# Altium schematic symbol library WR-TBL_Rising Cage Clamp.SchLib: 433 symbols (part 5 of 8)
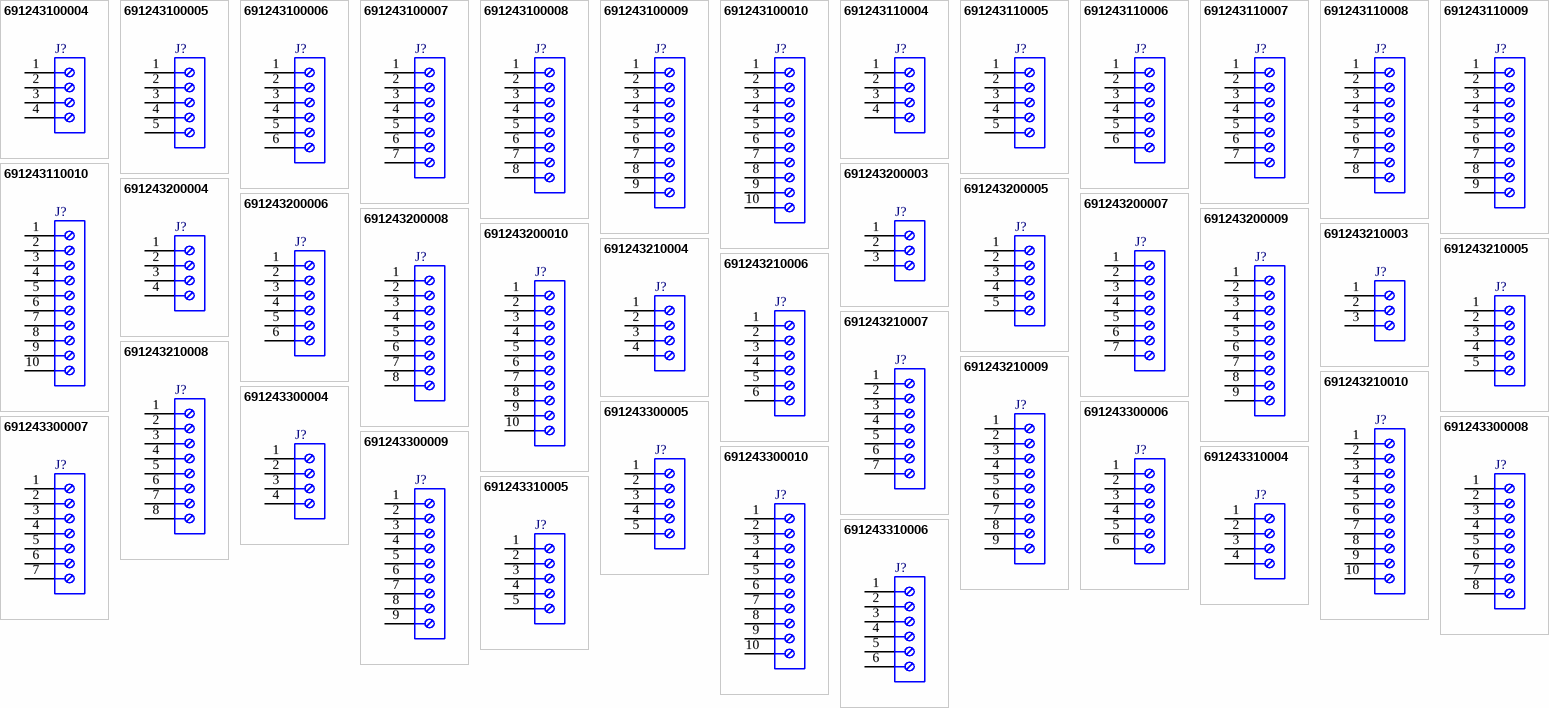
[diagram p14: symbols 691243100004 to 691243310006]

## 691243100009
designator J?  (value not drawn)
WR-TBL Series 2431 Vertical Entry Modular, THT, pitch 3.5mm, 09p; Manufacturer: Wurth Elektronik; Modularity: No; Rated Current: 10A; Wire Section: 30 to 16 (AWG) 0.05 to 1.31 (mm^2); Working Voltage: 300V (AC); Manufacturer Part Number: 691243100009; Product Series: WR-TBL; ComponentLink1Description: Website Link; ComponentLink1URL: https://www.we-online.com; ComponentLink2Description: Datasheet Link; ComponentLink2URL: https://www.we-online.com/components/products/datasheet/691243100009; Mount: Through Hole; Operating Temperature Min: -30degC; Operating Temperature Max: 120degC; Packaging: Box; Application: Rising Cage Clamp; Number of Pins: 9; Number of Rows: 1; Orientation: Vertical; Lead Pitch: 3.5mm
footprint 691243100009
pins: 1, 2, 3, 4, 5, 6, 7, 8, 9

## 691243100010
designator J?  (value not drawn)
WR-TBL Series 2431 Vertical Entry Modular, THT, pitch 3.5mm, 10p; Manufacturer: Wurth Elektronik; Modularity: No; Rated Current: 10A; Wire Section: 30 to 16 (AWG) 0.05 to 1.31 (mm^2); Working Voltage: 300V (AC); Manufacturer Part Number: 691243100010; Product Series: WR-TBL; ComponentLink1Description: Website Link; ComponentLink1URL: https://www.we-online.com; ComponentLink2Description: Datasheet Link; ComponentLink2URL: https://www.we-online.com/components/products/datasheet/691243100010; Mount: Through Hole; Operating Temperature Min: -30degC; Operating Temperature Max: 120degC; Packaging: Box; Application: Rising Cage Clamp; Number of Pins: 10; Number of Rows: 1; Orientation: Vertical; Lead Pitch: 3.5mm
footprint 691243100010
pins: 1, 2, 3, 4, 5, 6, 7, 8, 9, 10

## 691243110004
designator J?  (value not drawn)
WR-TBL Series 2431 Horizontal Cable Entry, THT, pitch 3.5mm, 04p; Manufacturer: Wurth Elektronik; Modularity: No; Rated Current: 10A; Wire Section: 30 to 16 (AWG) 0.05 to 1.31 (mm^2); Working Voltage: 300V (AC); Manufacturer Part Number: 691243110004; Product Series: WR-TBL; ComponentLink1Description: Website Link; ComponentLink1URL: https://www.we-online.com; ComponentLink2Description: Datasheet Link; ComponentLink2URL: https://www.we-online.com/components/products/datasheet/691243110004; Mount: Through Hole; Operating Temperature Min: -30degC; Operating Temperature Max: 120degC; Packaging: Box; Application: Rising Cage Clamp; Number of Pins: 4; Number of Rows: 1; Orientation: Horizontal; Lead Pitch: 3.5mm
footprint 691243110004
pins: 1, 2, 3, 4

## 691243110005
designator J?  (value not drawn)
WR-TBL Series 2431 Horizontal Cable Entry, THT, pitch 3.5mm, 05p; Manufacturer: Wurth Elektronik; Modularity: No; Rated Current: 10A; Wire Section: 30 to 16 (AWG) 0.05 to 1.31 (mm^2); Working Voltage: 300V (AC); Manufacturer Part Number: 691243110005; Product Series: WR-TBL; ComponentLink1Description: Website Link; ComponentLink1URL: https://www.we-online.com; ComponentLink2Description: Datasheet Link; ComponentLink2URL: https://www.we-online.com/components/products/datasheet/691243110005; Mount: Through Hole; Operating Temperature Min: -30degC; Operating Temperature Max: 120degC; Packaging: Box; Application: Rising Cage Clamp; Number of Pins: 5; Number of Rows: 1; Orientation: Horizontal; Lead Pitch: 3.5mm
footprint 691243110005
pins: 1, 2, 3, 4, 5

## 691243110006
designator J?  (value not drawn)
WR-TBL Series 2431 Horizontal Cable Entry, THT, pitch 3.5mm, 06p; Manufacturer: Wurth Elektronik; Modularity: No; Rated Current: 10A; Wire Section: 30 to 16 (AWG) 0.05 to 1.31 (mm^2); Working Voltage: 300V (AC); Manufacturer Part Number: 691243110006; Product Series: WR-TBL; ComponentLink1Description: Website Link; ComponentLink1URL: https://www.we-online.com; ComponentLink2Description: Datasheet Link; ComponentLink2URL: https://www.we-online.com/components/products/datasheet/691243110006; Mount: Through Hole; Operating Temperature Min: -30degC; Operating Temperature Max: 120degC; Packaging: Box; Application: Rising Cage Clamp; Number of Pins: 6; Number of Rows: 1; Orientation: Horizontal; Lead Pitch: 3.5mm
footprint 691243110006
pins: 1, 2, 3, 4, 5, 6

## 691243110007
designator J?  (value not drawn)
WR-TBL Series 2431 Horizontal Cable Entry, THT, pitch 3.5mm, 07p; Manufacturer: Wurth Elektronik; Modularity: No; Rated Current: 10A; Wire Section: 30 to 16 (AWG) 0.05 to 1.31 (mm^2); Working Voltage: 300V (AC); Manufacturer Part Number: 691243110007; Product Series: WR-TBL; ComponentLink1Description: Website Link; ComponentLink1URL: https://www.we-online.com; ComponentLink2Description: Datasheet Link; ComponentLink2URL: https://www.we-online.com/components/products/datasheet/691243110007; Mount: Through Hole; Operating Temperature Min: -30degC; Operating Temperature Max: 120degC; Packaging: Box; Application: Rising Cage Clamp; Number of Pins: 7; Number of Rows: 1; Orientation: Horizontal; Lead Pitch: 3.5mm
footprint 691243110007
pins: 1, 2, 3, 4, 5, 6, 7

## 691243110008
designator J?  (value not drawn)
WR-TBL Series 2431 Horizontal Cable Entry, THT, pitch 3.5mm, 08p; Manufacturer: Wurth Elektronik; Modularity: No; Rated Current: 10A; Wire Section: 30 to 16 (AWG) 0.05 to 1.31 (mm^2); Working Voltage: 300V (AC); Manufacturer Part Number: 691243110008; Product Series: WR-TBL; ComponentLink1Description: Website Link; ComponentLink1URL: https://www.we-online.com; ComponentLink2Description: Datasheet Link; ComponentLink2URL: https://www.we-online.com/components/products/datasheet/691243110008; Mount: Through Hole; Operating Temperature Min: -30degC; Operating Temperature Max: 120degC; Packaging: Box; Application: Rising Cage Clamp; Number of Pins: 8; Number of Rows: 1; Orientation: Horizontal; Lead Pitch: 3.5mm
footprint 691243110008
pins: 1, 2, 3, 4, 5, 6, 7, 8

## 691243110009
designator J?  (value not drawn)
WR-TBL Series 2431 Horizontal Cable Entry, THT, pitch 3.5mm, 09p; Manufacturer: Wurth Elektronik; Modularity: No; Rated Current: 10A; Wire Section: 30 to 16 (AWG) 0.05 to 1.31 (mm^2); Working Voltage: 300V (AC); Manufacturer Part Number: 691243110009; Product Series: WR-TBL; ComponentLink1Description: Website Link; ComponentLink1URL: https://www.we-online.com; ComponentLink2Description: Datasheet Link; ComponentLink2URL: https://www.we-online.com/components/products/datasheet/691243110009; Mount: Through Hole; Operating Temperature Min: -30degC; Operating Temperature Max: 120degC; Packaging: Box; Application: Rising Cage Clamp; Number of Pins: 9; Number of Rows: 1; Orientation: Horizontal; Lead Pitch: 3.5mm
footprint 691243110009
pins: 1, 2, 3, 4, 5, 6, 7, 8, 9

## 691243110010
designator J?  (value not drawn)
WR-TBL Series 2431 Horizontal Cable Entry, THT, pitch 3.5mm, 10p; Manufacturer: Wurth Elektronik; Modularity: No; Rated Current: 10A; Wire Section: 30 to 16 (AWG) 0.05 to 1.31 (mm^2); Working Voltage: 300V (AC); Manufacturer Part Number: 691243110010; Product Series: WR-TBL; ComponentLink1Description: Website Link; ComponentLink1URL: https://www.we-online.com; ComponentLink2Description: Datasheet Link; ComponentLink2URL: https://www.we-online.com/components/products/datasheet/691243110010; Mount: Through Hole; Operating Temperature Min: -30degC; Operating Temperature Max: 120degC; Packaging: Box; Application: Rising Cage Clamp; Number of Pins: 10; Number of Rows: 1; Orientation: Horizontal; Lead Pitch: 3.5mm
footprint 691243110010
pins: 1, 2, 3, 4, 5, 6, 7, 8, 9, 10

## 691243200003
designator J?  (value not drawn)
WR-TBL Series 2432 Vertical Entry Modular, THT, pitch 7mm, 03p; Manufacturer: Wurth Elektronik; Modularity: No; Rated Current: 10A; Wire Section: 16 to 30 (AWG) 1.31 to 0.0509 (mm^2); Working Voltage: 300V (AC); Manufacturer Part Number: 691243200003; Product Series: WR-TBL; ComponentLink1Description: Website Link; ComponentLink1URL: https://www.we-online.com; ComponentLink2Description: Datasheet Link; ComponentLink2URL: https://www.we-online.com/components/products/datasheet/691243200003; Mount: Through Hole; Operating Temperature Min: -30degC; Operating Temperature Max: 120degC; Packaging: Box; Application: Rising Cage Clamp; Number of Pins: 3; Number of Rows: 1; Orientation: Vertical; Lead Pitch: 7mm
footprint 691243200003
pins: 1, 2, 3

## 691243200004
designator J?  (value not drawn)
WR-TBL Series 2432 Vertical Entry Modular, THT, pitch 7mm, 04p; Manufacturer: Wurth Elektronik; Modularity: No; Rated Current: 10A; Wire Section: 16 to 30 (AWG) 1.31 to 0.0509 (mm^2); Working Voltage: 300V (AC); Manufacturer Part Number: 691243200004; Product Series: WR-TBL; ComponentLink1Description: Website Link; ComponentLink1URL: https://www.we-online.com; ComponentLink2Description: Datasheet Link; ComponentLink2URL: https://www.we-online.com/components/products/datasheet/691243200004; Mount: Through Hole; Operating Temperature Min: -30degC; Operating Temperature Max: 120degC; Packaging: Box; Application: Rising Cage Clamp; Number of Pins: 4; Number of Rows: 1; Orientation: Vertical; Lead Pitch: 7mm
footprint 691243200004
pins: 1, 2, 3, 4

## 691243200005
designator J?  (value not drawn)
WR-TBL Series 2432 Vertical Entry Modular, THT, pitch 7mm, 05p; Manufacturer: Wurth Elektronik; Modularity: No; Rated Current: 10A; Wire Section: 16 to 30 (AWG) 1.31 to 0.0509 (mm^2); Working Voltage: 300V (AC); Manufacturer Part Number: 691243200005; Product Series: WR-TBL; ComponentLink1Description: Website Link; ComponentLink1URL: https://www.we-online.com; ComponentLink2Description: Datasheet Link; ComponentLink2URL: https://www.we-online.com/components/products/datasheet/691243200005; Mount: Through Hole; Operating Temperature Min: -30degC; Operating Temperature Max: 120degC; Packaging: Box; Application: Rising Cage Clamp; Number of Pins: 5; Number of Rows: 1; Orientation: Vertical; Lead Pitch: 7mm
footprint 691243200005
pins: 1, 2, 3, 4, 5

## 691243200006
designator J?  (value not drawn)
WR-TBL Series 2432 Vertical Entry Modular, THT, pitch 7mm, 06p; Manufacturer: Wurth Elektronik; Modularity: No; Rated Current: 10A; Wire Section: 16 to 30 (AWG) 1.31 to 0.0509 (mm^2); Working Voltage: 300V (AC); Manufacturer Part Number: 691243200006; Product Series: WR-TBL; ComponentLink1Description: Website Link; ComponentLink1URL: https://www.we-online.com; ComponentLink2Description: Datasheet Link; ComponentLink2URL: https://www.we-online.com/components/products/datasheet/691243200006; Mount: Through Hole; Operating Temperature Min: -30degC; Operating Temperature Max: 120degC; Packaging: Box; Application: Rising Cage Clamp; Number of Pins: 6; Number of Rows: 1; Orientation: Vertical; Lead Pitch: 7mm
footprint 691243200006
pins: 1, 2, 3, 4, 5, 6

## 691243200007
designator J?  (value not drawn)
WR-TBL Series 2432 Vertical Entry Modular, THT, pitch 7mm, 07p; Manufacturer: Wurth Elektronik; Modularity: No; Rated Current: 10A; Wire Section: 16 to 30 (AWG) 1.31 to 0.0509 (mm^2); Working Voltage: 300V (AC); Manufacturer Part Number: 691243200007; Product Series: WR-TBL; ComponentLink1Description: Website Link; ComponentLink1URL: https://www.we-online.com; ComponentLink2Description: Datasheet Link; ComponentLink2URL: https://www.we-online.com/components/products/datasheet/691243200007; Mount: Through Hole; Operating Temperature Min: -30degC; Operating Temperature Max: 120degC; Packaging: Box; Application: Rising Cage Clamp; Number of Pins: 7; Number of Rows: 1; Orientation: Vertical; Lead Pitch: 7mm
footprint 691243200007
pins: 1, 2, 3, 4, 5, 6, 7

## 691243200008
designator J?  (value not drawn)
WR-TBL Series 2432 Vertical Entry Modular, THT, pitch 7mm, 08p; Manufacturer: Wurth Elektronik; Modularity: No; Rated Current: 10A; Wire Section: 16 to 30 (AWG) 1.31 to 0.0509 (mm^2); Working Voltage: 300V (AC); Manufacturer Part Number: 691243200008; Product Series: WR-TBL; ComponentLink1Description: Website Link; ComponentLink1URL: https://www.we-online.com; ComponentLink2Description: Datasheet Link; ComponentLink2URL: https://www.we-online.com/components/products/datasheet/691243200008; Mount: Through Hole; Operating Temperature Min: -30degC; Operating Temperature Max: 120degC; Packaging: Box; Application: Rising Cage Clamp; Number of Pins: 8; Number of Rows: 1; Orientation: Vertical; Lead Pitch: 7mm
footprint 691243200008
pins: 1, 2, 3, 4, 5, 6, 7, 8

## 691243200009
designator J?  (value not drawn)
WR-TBL Series 2432 Vertical Entry Modular, THT, pitch 7mm, 09p; Manufacturer: Wurth Elektronik; Modularity: No; Rated Current: 10A; Wire Section: 16 to 30 (AWG) 1.31 to 0.0509 (mm^2); Working Voltage: 300V (AC); Manufacturer Part Number: 691243200009; Product Series: WR-TBL; ComponentLink1Description: Website Link; ComponentLink1URL: https://www.we-online.com; ComponentLink2Description: Datasheet Link; ComponentLink2URL: https://www.we-online.com/components/products/datasheet/691243200009; Mount: Through Hole; Operating Temperature Min: -30degC; Operating Temperature Max: 120degC; Packaging: Box; Application: Rising Cage Clamp; Number of Pins: 9; Number of Rows: 1; Orientation: Vertical; Lead Pitch: 7mm
footprint 691243200009
pins: 1, 2, 3, 4, 5, 6, 7, 8, 9

## 691243200010
designator J?  (value not drawn)
WR-TBL Series 2432 Vertical Entry Modular, THT, pitch 7mm, 10p; Manufacturer: Wurth Elektronik; Modularity: No; Rated Current: 10A; Wire Section: 16 to 30 (AWG) 1.31 to 0.0509 (mm^2); Working Voltage: 300V (AC); Manufacturer Part Number: 691243200010; Product Series: WR-TBL; ComponentLink1Description: Website Link; ComponentLink1URL: https://www.we-online.com; ComponentLink2Description: Datasheet Link; ComponentLink2URL: https://www.we-online.com/components/products/datasheet/691243200010; Mount: Through Hole; Operating Temperature Min: -30degC; Operating Temperature Max: 120degC; Packaging: Box; Application: Rising Cage Clamp; Number of Pins: 10; Number of Rows: 1; Orientation: Vertical; Lead Pitch: 7mm
footprint 691243200010
pins: 1, 2, 3, 4, 5, 6, 7, 8, 9, 10

## 691243210003
designator J?  (value not drawn)
WR-TBL Series 2432 Horizontal Entry Modular, THT, pitch 7mm, 03p; Manufacturer: Wurth Elektronik; Modularity: No; Rated Current: 10A; Wire Section: 16 to 30 (AWG) 1.31 to 0.0509 (mm^2); Working Voltage: 300V (AC); Manufacturer Part Number: 691243210003; Product Series: WR-TBL; ComponentLink1Description: Website Link; ComponentLink1URL: https://www.we-online.com; ComponentLink2Description: Datasheet Link; ComponentLink2URL: https://www.we-online.com/components/products/datasheet/691243210003; Mount: Through Hole; Operating Temperature Min: -30degC; Operating Temperature Max: 120degC; Packaging: Box; Application: Rising Cage Clamp; Number of Pins: 3; Number of Rows: 1; Orientation: Horizontal; Lead Pitch: 7mm
footprint 691243210003
pins: 1, 2, 3

## 691243210004
designator J?  (value not drawn)
WR-TBL Series 2432 Horizontal Entry Modular, THT, pitch 7mm, 04p; Manufacturer: Wurth Elektronik; Modularity: No; Rated Current: 10A; Wire Section: 16 to 30 (AWG) 1.31 to 0.0509 (mm^2); Working Voltage: 300V (AC); Manufacturer Part Number: 691243210004; Product Series: WR-TBL; ComponentLink1Description: Website Link; ComponentLink1URL: https://www.we-online.com; ComponentLink2Description: Datasheet Link; ComponentLink2URL: https://www.we-online.com/components/products/datasheet/691243210004; Mount: Through Hole; Operating Temperature Min: -30degC; Operating Temperature Max: 120degC; Packaging: Box; Application: Rising Cage Clamp; Number of Pins: 4; Number of Rows: 1; Orientation: Horizontal; Lead Pitch: 7mm
footprint 691243210004
pins: 1, 2, 3, 4

## 691243210005
designator J?  (value not drawn)
WR-TBL Series 2432 Horizontal Entry Modular, THT, pitch 7mm, 05p; Manufacturer: Wurth Elektronik; Modularity: No; Rated Current: 10A; Wire Section: 16 to 30 (AWG) 1.31 to 0.0509 (mm^2); Working Voltage: 300V (AC); Manufacturer Part Number: 691243210005; Product Series: WR-TBL; ComponentLink1Description: Website Link; ComponentLink1URL: https://www.we-online.com; ComponentLink2Description: Datasheet Link; ComponentLink2URL: https://www.we-online.com/components/products/datasheet/691243210005; Mount: Through Hole; Operating Temperature Min: -30degC; Operating Temperature Max: 120degC; Packaging: Box; Application: Rising Cage Clamp; Number of Pins: 5; Number of Rows: 1; Orientation: Horizontal; Lead Pitch: 7mm
footprint 691243210005
pins: 1, 2, 3, 4, 5

## 691243210006
designator J?  (value not drawn)
WR-TBL Series 2432 Horizontal Entry Modular, THT, pitch 7mm, 06p; Manufacturer: Wurth Elektronik; Modularity: No; Rated Current: 10A; Wire Section: 16 to 30 (AWG) 1.31 to 0.0509 (mm^2); Working Voltage: 300V (AC); Manufacturer Part Number: 691243210006; Product Series: WR-TBL; ComponentLink1Description: Website Link; ComponentLink1URL: https://www.we-online.com; ComponentLink2Description: Datasheet Link; ComponentLink2URL: https://www.we-online.com/components/products/datasheet/691243210006; Mount: Through Hole; Operating Temperature Min: -30degC; Operating Temperature Max: 120degC; Packaging: Box; Application: Rising Cage Clamp; Number of Pins: 6; Number of Rows: 1; Orientation: Horizontal; Lead Pitch: 7mm
footprint 691243210006
pins: 1, 2, 3, 4, 5, 6

## 691243210007
designator J?  (value not drawn)
WR-TBL Series 2432 Horizontal Entry Modular, THT, pitch 7mm, 07p; Manufacturer: Wurth Elektronik; Modularity: No; Rated Current: 10A; Wire Section: 16 to 30 (AWG) 1.31 to 0.0509 (mm^2); Working Voltage: 300V (AC); Manufacturer Part Number: 691243210007; Product Series: WR-TBL; ComponentLink1Description: Website Link; ComponentLink1URL: https://www.we-online.com; ComponentLink2Description: Datasheet Link; ComponentLink2URL: https://www.we-online.com/components/products/datasheet/691243210007; Mount: Through Hole; Operating Temperature Min: -30degC; Operating Temperature Max: 120degC; Packaging: Box; Application: Rising Cage Clamp; Number of Pins: 7; Number of Rows: 1; Orientation: Horizontal; Lead Pitch: 7mm
footprint 691243210007
pins: 1, 2, 3, 4, 5, 6, 7

## 691243210008
designator J?  (value not drawn)
WR-TBL Series 2432 Horizontal Entry Modular, THT, pitch 7mm, 08p; Manufacturer: Wurth Elektronik; Modularity: No; Rated Current: 10A; Wire Section: 16 to 30 (AWG) 1.31 to 0.0509 (mm^2); Working Voltage: 300V (AC); Manufacturer Part Number: 691243210008; Product Series: WR-TBL; ComponentLink1Description: Website Link; ComponentLink1URL: https://www.we-online.com; ComponentLink2Description: Datasheet Link; ComponentLink2URL: https://www.we-online.com/components/products/datasheet/691243210008; Mount: Through Hole; Operating Temperature Min: -30degC; Operating Temperature Max: 120degC; Packaging: Box; Application: Rising Cage Clamp; Number of Pins: 8; Number of Rows: 1; Orientation: Horizontal; Lead Pitch: 7mm
footprint 691243210008
pins: 1, 2, 3, 4, 5, 6, 7, 8

## 691243210009
designator J?  (value not drawn)
WR-TBL Series 2432 Horizontal Entry Modular, THT, pitch 7mm, 09p; Manufacturer: Wurth Elektronik; Modularity: No; Rated Current: 10A; Wire Section: 16 to 30 (AWG) 1.31 to 0.0509 (mm^2); Working Voltage: 300V (AC); Manufacturer Part Number: 691243210009; Product Series: WR-TBL; ComponentLink1Description: Website Link; ComponentLink1URL: https://www.we-online.com; ComponentLink2Description: Datasheet Link; ComponentLink2URL: https://www.we-online.com/components/products/datasheet/691243210009; Mount: Through Hole; Operating Temperature Min: -30degC; Operating Temperature Max: 120degC; Packaging: Box; Application: Rising Cage Clamp; Number of Pins: 9; Number of Rows: 1; Orientation: Horizontal; Lead Pitch: 7mm
footprint 691243210009
pins: 1, 2, 3, 4, 5, 6, 7, 8, 9

## 691243210010
designator J?  (value not drawn)
WR-TBL Series 2432 Horizontal Entry Modular, THT, pitch 7mm, 10p; Manufacturer: Wurth Elektronik; Modularity: No; Rated Current: 10A; Wire Section: 16 to 30 (AWG) 1.31 to 0.0509 (mm^2); Working Voltage: 300V (AC); Manufacturer Part Number: 691243210010; Product Series: WR-TBL; ComponentLink1Description: Website Link; ComponentLink1URL: https://www.we-online.com; ComponentLink2Description: Datasheet Link; ComponentLink2URL: https://www.we-online.com/components/products/datasheet/691243210010; Mount: Through Hole; Operating Temperature Min: -30degC; Operating Temperature Max: 120degC; Packaging: Box; Application: Rising Cage Clamp; Number of Pins: 10; Number of Rows: 1; Orientation: Horizontal; Lead Pitch: 7mm
footprint 691243210010
pins: 1, 2, 3, 4, 5, 6, 7, 8, 9, 10

## 691243300004
designator J?  (value not drawn)
WR-TBL Series 2433 Vertical Entry Modular, THT, pitch 3.81mm, 04p; Manufacturer: Wurth Elektronik; Modularity: No; Rated Current: 10A; Wire Section: 30 to 16 (AWG) 0.05 to 1.31 (mm^2); Working Voltage: 300V (AC); Manufacturer Part Number: 691243300004; Product Series: WR-TBL; ComponentLink1Description: Website Link; ComponentLink1URL: https://www.we-online.com; ComponentLink2Description: Datasheet Link; ComponentLink2URL: https://www.we-online.com/components/products/datasheet/691243300004; Mount: Through Hole; Operating Temperature Min: -30degC; Operating Temperature Max: 120degC; Packaging: Box; Application: Rising Cage Clamp; Number of Pins: 4; Number of Rows: 1; Orientation: Vertical; Lead Pitch: 3.81mm
footprint 691243300004
pins: 1, 2, 3, 4

## 691243300005
designator J?  (value not drawn)
WR-TBL Series 2433 Vertical Entry Modular, THT, pitch 3.81mm, 05p; Manufacturer: Wurth Elektronik; Modularity: No; Rated Current: 10A; Wire Section: 30 to 16 (AWG) 0.05 to 1.31 (mm^2); Working Voltage: 300V (AC); Manufacturer Part Number: 691243300005; Product Series: WR-TBL; ComponentLink1Description: Website Link; ComponentLink1URL: https://www.we-online.com; ComponentLink2Description: Datasheet Link; ComponentLink2URL: https://www.we-online.com/components/products/datasheet/691243300005; Mount: Through Hole; Operating Temperature Min: -30degC; Operating Temperature Max: 120degC; Packaging: Box; Application: Rising Cage Clamp; Number of Pins: 5; Number of Rows: 1; Orientation: Vertical; Lead Pitch: 3.81mm
footprint 691243300005
pins: 1, 2, 3, 4, 5

## 691243300006
designator J?  (value not drawn)
WR-TBL Series 2433 Vertical Entry Modular, THT, pitch 3.81mm, 06p; Manufacturer: Wurth Elektronik; Modularity: No; Rated Current: 10A; Wire Section: 30 to 16 (AWG) 0.05 to 1.31 (mm^2); Working Voltage: 300V (AC); Manufacturer Part Number: 691243300006; Product Series: WR-TBL; ComponentLink1Description: Website Link; ComponentLink1URL: https://www.we-online.com; ComponentLink2Description: Datasheet Link; ComponentLink2URL: https://www.we-online.com/components/products/datasheet/691243300006; Mount: Through Hole; Operating Temperature Min: -30degC; Operating Temperature Max: 120degC; Packaging: Box; Application: Rising Cage Clamp; Number of Pins: 6; Number of Rows: 1; Orientation: Vertical; Lead Pitch: 3.81mm
footprint 691243300006
pins: 1, 2, 3, 4, 5, 6

## 691243300007
designator J?  (value not drawn)
WR-TBL Series 2433 Vertical Entry Modular, THT, pitch 3.81mm, 07p; Manufacturer: Wurth Elektronik; Modularity: No; Rated Current: 10A; Wire Section: 30 to 16 (AWG) 0.05 to 1.31 (mm^2); Working Voltage: 300V (AC); Manufacturer Part Number: 691243300007; Product Series: WR-TBL; ComponentLink1Description: Website Link; ComponentLink1URL: https://www.we-online.com; ComponentLink2Description: Datasheet Link; ComponentLink2URL: https://www.we-online.com/components/products/datasheet/691243300007; Mount: Through Hole; Operating Temperature Min: -30degC; Operating Temperature Max: 120degC; Packaging: Box; Application: Rising Cage Clamp; Number of Pins: 7; Number of Rows: 1; Orientation: Vertical; Lead Pitch: 3.81mm
footprint 691243300007
pins: 1, 2, 3, 4, 5, 6, 7

## 691243300008
designator J?  (value not drawn)
WR-TBL Series 2433 Vertical Entry Modular, THT, pitch 3.81mm, 08p; Manufacturer: Wurth Elektronik; Modularity: No; Rated Current: 10A; Wire Section: 30 to 16 (AWG) 0.05 to 1.31 (mm^2); Working Voltage: 300V (AC); Manufacturer Part Number: 691243300008; Product Series: WR-TBL; ComponentLink1Description: Website Link; ComponentLink1URL: https://www.we-online.com; ComponentLink2Description: Datasheet Link; ComponentLink2URL: https://www.we-online.com/components/products/datasheet/691243300008; Mount: Through Hole; Operating Temperature Min: -30degC; Operating Temperature Max: 120degC; Packaging: Box; Application: Rising Cage Clamp; Number of Pins: 8; Number of Rows: 1; Orientation: Vertical; Lead Pitch: 3.81mm
footprint 691243300008
pins: 1, 2, 3, 4, 5, 6, 7, 8

## 691243300009
designator J?  (value not drawn)
WR-TBL Series 2433 Vertical Entry Modular, THT, pitch 3.81mm, 09p; Manufacturer: Wurth Elektronik; Modularity: No; Rated Current: 10A; Wire Section: 30 to 16 (AWG) 0.05 to 1.31 (mm^2); Working Voltage: 300V (AC); Manufacturer Part Number: 691243300009; Product Series: WR-TBL; ComponentLink1Description: Website Link; ComponentLink1URL: https://www.we-online.com; ComponentLink2Description: Datasheet Link; ComponentLink2URL: https://www.we-online.com/components/products/datasheet/691243300009; Mount: Through Hole; Operating Temperature Min: -30degC; Operating Temperature Max: 120degC; Packaging: Box; Application: Rising Cage Clamp; Number of Pins: 9; Number of Rows: 1; Orientation: Vertical; Lead Pitch: 3.81mm
footprint 691243300009
pins: 1, 2, 3, 4, 5, 6, 7, 8, 9

## 691243300010
designator J?  (value not drawn)
WR-TBL Series 2433 Vertical Entry Modular, THT, pitch 3.81mm, 10p; Manufacturer: Wurth Elektronik; Modularity: No; Rated Current: 10A; Wire Section: 30 to 16 (AWG) 0.05 to 1.31 (mm^2); Working Voltage: 300V (AC); Manufacturer Part Number: 691243300010; Product Series: WR-TBL; ComponentLink1Description: Website Link; ComponentLink1URL: https://www.we-online.com; ComponentLink2Description: Datasheet Link; ComponentLink2URL: https://www.we-online.com/components/products/datasheet/691243300010; Mount: Through Hole; Operating Temperature Min: -30degC; Operating Temperature Max: 120degC; Packaging: Box; Application: Rising Cage Clamp; Number of Pins: 10; Number of Rows: 1; Orientation: Vertical; Lead Pitch: 3.81mm
footprint 691243300010
pins: 1, 2, 3, 4, 5, 6, 7, 8, 9, 10

## 691243310004
designator J?  (value not drawn)
WR-TBL Series 2433 Horizontal Entry Modular, THT, pitch 3.81mm, 04p; Manufacturer: Wurth Elektronik; Modularity: No; Rated Current: 10A; Wire Section: 30 to 16 (AWG) 0.05 to 1.31 (mm^2); Working Voltage: 300V (AC); Manufacturer Part Number: 691243310004; Product Series: WR-TBL; ComponentLink1Description: Website Link; ComponentLink1URL: https://www.we-online.com; ComponentLink2Description: Datasheet Link; ComponentLink2URL: https://www.we-online.com/components/products/datasheet/691243310004; Mount: Through Hole; Operating Temperature Min: -30degC; Operating Temperature Max: 120degC; Packaging: Box; Application: Rising Cage Clamp; Number of Pins: 4; Number of Rows: 1; Orientation: Horizontal; Lead Pitch: 3.81mm
footprint 691243310004
pins: 1, 2, 3, 4

## 691243310005
designator J?  (value not drawn)
WR-TBL Series 2433 Horizontal Entry Modular, THT, pitch 3.81mm, 05p; Manufacturer: Wurth Elektronik; Modularity: No; Rated Current: 10A; Wire Section: 30 to 16 (AWG) 0.05 to 1.31 (mm^2); Working Voltage: 300V (AC); Manufacturer Part Number: 691243310005; Product Series: WR-TBL; ComponentLink1Description: Website Link; ComponentLink1URL: https://www.we-online.com; ComponentLink2Description: Datasheet Link; ComponentLink2URL: https://www.we-online.com/components/products/datasheet/691243310005; Mount: Through Hole; Operating Temperature Min: -30degC; Operating Temperature Max: 120degC; Packaging: Box; Application: Rising Cage Clamp; Number of Pins: 5; Number of Rows: 1; Orientation: Horizontal; Lead Pitch: 3.81mm
footprint 691243310005
pins: 1, 2, 3, 4, 5

## 691243310006
designator J?  (value not drawn)
WR-TBL Series 2433 Horizontal Entry Modular, THT, pitch 3.81mm, 06p; Manufacturer: Wurth Elektronik; Modularity: No; Rated Current: 10A; Wire Section: 30 to 16 (AWG) 0.05 to 1.31 (mm^2); Working Voltage: 300V (AC); Manufacturer Part Number: 691243310006; Product Series: WR-TBL; ComponentLink1Description: Website Link; ComponentLink1URL: https://www.we-online.com; ComponentLink2Description: Datasheet Link; ComponentLink2URL: https://www.we-online.com/components/products/datasheet/691243310006; Mount: Through Hole; Operating Temperature Min: -30degC; Operating Temperature Max: 120degC; Packaging: Box; Application: Rising Cage Clamp; Number of Pins: 6; Number of Rows: 1; Orientation: Horizontal; Lead Pitch: 3.81mm
footprint 691243310006
pins: 1, 2, 3, 4, 5, 6

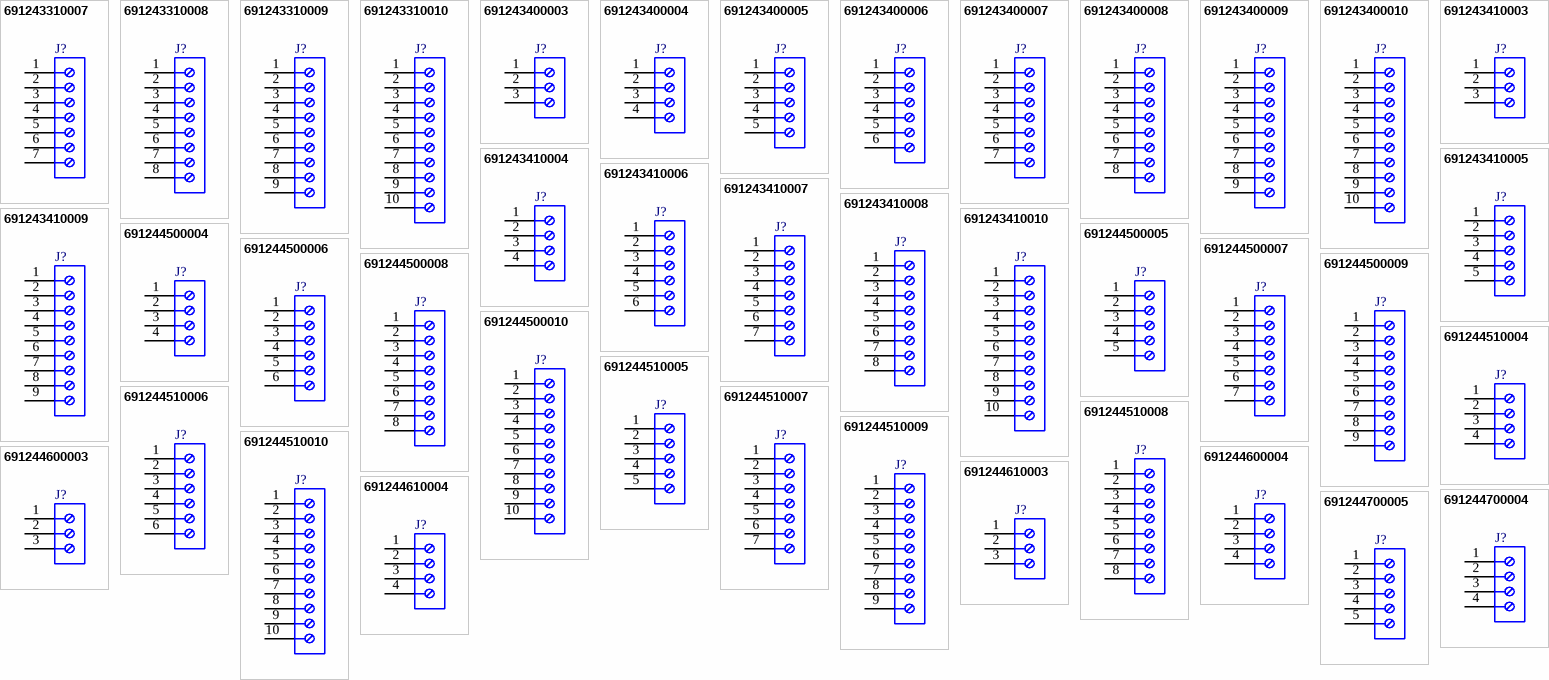
[diagram p7: symbols 691243310007 to 691244700005]

## 691243310007
designator J?  (value not drawn)
WR-TBL Series 2433 Horizontal Entry Modular, THT, pitch 3.81mm, 07p; Manufacturer: Wurth Elektronik; Modularity: No; Rated Current: 10A; Wire Section: 30 to 16 (AWG) 0.05 to 1.31 (mm^2); Working Voltage: 300V (AC); Manufacturer Part Number: 691243310007; Product Series: WR-TBL; ComponentLink1Description: Website Link; ComponentLink1URL: https://www.we-online.com; ComponentLink2Description: Datasheet Link; ComponentLink2URL: https://www.we-online.com/components/products/datasheet/691243310007; Mount: Through Hole; Operating Temperature Min: -30degC; Operating Temperature Max: 120degC; Packaging: Box; Application: Rising Cage Clamp; Number of Pins: 7; Number of Rows: 1; Orientation: Horizontal; Lead Pitch: 3.81mm
footprint 691243310007
pins: 1, 2, 3, 4, 5, 6, 7

## 691243310008
designator J?  (value not drawn)
WR-TBL Series 2433 Horizontal Entry Modular, THT, pitch 3.81mm, 08p; Manufacturer: Wurth Elektronik; Modularity: No; Rated Current: 10A; Wire Section: 30 to 16 (AWG) 0.05 to 1.31 (mm^2); Working Voltage: 300V (AC); Manufacturer Part Number: 691243310008; Product Series: WR-TBL; ComponentLink1Description: Website Link; ComponentLink1URL: https://www.we-online.com; ComponentLink2Description: Datasheet Link; ComponentLink2URL: https://www.we-online.com/components/products/datasheet/691243310008; Mount: Through Hole; Operating Temperature Min: -30degC; Operating Temperature Max: 120degC; Packaging: Box; Application: Rising Cage Clamp; Number of Pins: 8; Number of Rows: 1; Orientation: Horizontal; Lead Pitch: 3.81mm
footprint 691243310008
pins: 1, 2, 3, 4, 5, 6, 7, 8

## 691243310009
designator J?  (value not drawn)
WR-TBL Series 2433 Horizontal Entry Modular, THT, pitch 3.81mm, 09p; Manufacturer: Wurth Elektronik; Modularity: No; Rated Current: 10A; Wire Section: 30 to 16 (AWG) 0.05 to 1.31 (mm^2); Working Voltage: 300V (AC); Manufacturer Part Number: 691243310009; Product Series: WR-TBL; ComponentLink1Description: Website Link; ComponentLink1URL: https://www.we-online.com; ComponentLink2Description: Datasheet Link; ComponentLink2URL: https://www.we-online.com/components/products/datasheet/691243310009; Mount: Through Hole; Operating Temperature Min: -30degC; Operating Temperature Max: 120degC; Packaging: Box; Application: Rising Cage Clamp; Number of Pins: 9; Number of Rows: 1; Orientation: Horizontal; Lead Pitch: 3.81mm
footprint 691243310009
pins: 1, 2, 3, 4, 5, 6, 7, 8, 9

## 691243310010
designator J?  (value not drawn)
WR-TBL Series 2433 Horizontal Entry Modular, THT, pitch 3.81mm, 10p; Manufacturer: Wurth Elektronik; Modularity: No; Rated Current: 10A; Wire Section: 30 to 16 (AWG) 0.05 to 1.31 (mm^2); Working Voltage: 300V (AC); Manufacturer Part Number: 691243310010; Product Series: WR-TBL; ComponentLink1Description: Website Link; ComponentLink1URL: https://www.we-online.com; ComponentLink2Description: Datasheet Link; ComponentLink2URL: https://www.we-online.com/components/products/datasheet/691243310010; Mount: Through Hole; Operating Temperature Min: -30degC; Operating Temperature Max: 120degC; Packaging: Box; Application: Rising Cage Clamp; Number of Pins: 10; Number of Rows: 1; Orientation: Horizontal; Lead Pitch: 3.81mm
footprint 691243310010
pins: 1, 2, 3, 4, 5, 6, 7, 8, 9, 10

## 691243400003
designator J?  (value not drawn)
WR-TBL Series 2434 Vertical Entry Modular, THT, pitch 7.62mm, 03p; Manufacturer: Wurth Elektronik; Modularity: No; Rated Current: 10A; Wire Section: 16 to 30 (AWG) 1.31 to 0.0509 (mm^2); Working Voltage: 300V (AC); Manufacturer Part Number: 691243400003; Product Series: WR-TBL; ComponentLink1Description: Website Link; ComponentLink1URL: https://www.we-online.com; ComponentLink2Description: Datasheet Link; ComponentLink2URL: https://www.we-online.com/components/products/datasheet/691243400003; Mount: Through Hole; Operating Temperature Min: -30degC; Operating Temperature Max: 120degC; Packaging: Box; Application: Rising Cage Clamp; Number of Pins: 3; Number of Rows: 1; Orientation: Vertical; Lead Pitch: 7.62mm
footprint 691243400003
pins: 1, 2, 3

## 691243400004
designator J?  (value not drawn)
WR-TBL Series 2434 Vertical Entry Modular, THT, pitch 7.62mm, 04p; Manufacturer: Wurth Elektronik; Modularity: No; Rated Current: 10A; Wire Section: 16 to 30 (AWG) 1.31 to 0.0509 (mm^2); Working Voltage: 300V (AC); Manufacturer Part Number: 691243400004; Product Series: WR-TBL; ComponentLink1Description: Website Link; ComponentLink1URL: https://www.we-online.com; ComponentLink2Description: Datasheet Link; ComponentLink2URL: https://www.we-online.com/components/products/datasheet/691243400004; Mount: Through Hole; Operating Temperature Min: -30degC; Operating Temperature Max: 120degC; Packaging: Box; Application: Rising Cage Clamp; Number of Pins: 4; Number of Rows: 1; Orientation: Vertical; Lead Pitch: 7.62mm
footprint 691243400004
pins: 1, 2, 3, 4

## 691243400005
designator J?  (value not drawn)
WR-TBL Series 2434 Vertical Entry Modular, THT, pitch 7.62mm, 05p; Manufacturer: Wurth Elektronik; Modularity: No; Rated Current: 10A; Wire Section: 16 to 30 (AWG) 1.31 to 0.0509 (mm^2); Working Voltage: 300V (AC); Manufacturer Part Number: 691243400005; Product Series: WR-TBL; ComponentLink1Description: Website Link; ComponentLink1URL: https://www.we-online.com; ComponentLink2Description: Datasheet Link; ComponentLink2URL: https://www.we-online.com/components/products/datasheet/691243400005; Mount: Through Hole; Operating Temperature Min: -30degC; Operating Temperature Max: 120degC; Packaging: Box; Application: Rising Cage Clamp; Number of Pins: 5; Number of Rows: 1; Orientation: Vertical; Lead Pitch: 7.62mm
footprint 691243400005
pins: 1, 2, 3, 4, 5

## 691243400006
designator J?  (value not drawn)
WR-TBL Series 2434 Vertical Entry Modular, THT, pitch 7.62mm, 06p; Manufacturer: Wurth Elektronik; Modularity: No; Rated Current: 10A; Wire Section: 16 to 30 (AWG) 1.31 to 0.0509 (mm^2); Working Voltage: 300V (AC); Manufacturer Part Number: 691243400006; Product Series: WR-TBL; ComponentLink1Description: Website Link; ComponentLink1URL: https://www.we-online.com; ComponentLink2Description: Datasheet Link; ComponentLink2URL: https://www.we-online.com/components/products/datasheet/691243400006; Mount: Through Hole; Operating Temperature Min: -30degC; Operating Temperature Max: 120degC; Packaging: Box; Application: Rising Cage Clamp; Number of Pins: 6; Number of Rows: 1; Orientation: Vertical; Lead Pitch: 7.62mm
footprint 691243400006
pins: 1, 2, 3, 4, 5, 6

## 691243400007
designator J?  (value not drawn)
WR-TBL Series 2434 Vertical Entry Modular, THT, pitch 7.62mm, 07p; Manufacturer: Wurth Elektronik; Modularity: No; Rated Current: 10A; Working Voltage: 300V (AC); Manufacturer Part Number: 691243400007; Product Series: WR-TBL; ComponentLink1Description: Website Link; ComponentLink1URL: https://www.we-online.com; ComponentLink2Description: Datasheet Link; ComponentLink2URL: https://www.we-online.com/components/products/datasheet/691243400007; Mount: Through Hole; Operating Temperature Min: -30degC; Operating Temperature Max: 120degC; Packaging: Box; Application: Rising Cage Clamp; Number of Pins: 7; Number of Rows: 1; Orientation: Vertical; Lead Pitch: 7.62mm
footprint 691243400007
pins: 1, 2, 3, 4, 5, 6, 7

## 691243400008
designator J?  (value not drawn)
WR-TBL Series 2434 Vertical Entry Modular, THT, pitch 7.62mm, 08p; Manufacturer: Wurth Elektronik; Modularity: No; Rated Current: 10A; Wire Section: 16 to 30 (AWG) 1.31 to 0.0509 (mm^2); Working Voltage: 300V (AC); Manufacturer Part Number: 691243400008; Product Series: WR-TBL; ComponentLink1Description: Website Link; ComponentLink1URL: https://www.we-online.com; ComponentLink2Description: Datasheet Link; ComponentLink2URL: https://www.we-online.com/components/products/datasheet/691243400008; Mount: Through Hole; Operating Temperature Min: -30degC; Operating Temperature Max: 120degC; Packaging: Box; Application: Rising Cage Clamp; Number of Pins: 8; Number of Rows: 1; Orientation: Vertical; Lead Pitch: 7.62mm
footprint 691243400008
pins: 1, 2, 3, 4, 5, 6, 7, 8

## 691243400009
designator J?  (value not drawn)
WR-TBL Series 2434 Vertical Entry Modular, THT, pitch 7.62mm, 09p; Manufacturer: Wurth Elektronik; Modularity: No; Rated Current: 10A; Wire Section: 16 to 30 (AWG) 1.31 to 0.0509 (mm^2); Working Voltage: 300V (AC); Manufacturer Part Number: 691243400009; Product Series: WR-TBL; ComponentLink1Description: Website Link; ComponentLink1URL: https://www.we-online.com; ComponentLink2Description: Datasheet Link; ComponentLink2URL: https://www.we-online.com/components/products/datasheet/691243400009; Mount: Through Hole; Operating Temperature Min: -30degC; Operating Temperature Max: 120degC; Packaging: Box; Application: Rising Cage Clamp; Number of Pins: 9; Number of Rows: 1; Orientation: Vertical; Lead Pitch: 7.62mm
footprint 691243400009
pins: 1, 2, 3, 4, 5, 6, 7, 8, 9

## 691243400010
designator J?  (value not drawn)
WR-TBL Series 2434 Vertical Entry Modular, THT, pitch 7.62mm, 10p; Manufacturer: Wurth Elektronik; Modularity: No; Rated Current: 10A; Wire Section: 16 to 30 (AWG) 1.31 to 0.0509 (mm^2); Working Voltage: 300V (AC); Manufacturer Part Number: 691243400010; Product Series: WR-TBL; ComponentLink1Description: Website Link; ComponentLink1URL: https://www.we-online.com; ComponentLink2Description: Datasheet Link; ComponentLink2URL: https://www.we-online.com/components/products/datasheet/691243400010; Mount: Through Hole; Operating Temperature Min: -30degC; Operating Temperature Max: 120degC; Packaging: Box; Application: Rising Cage Clamp; Number of Pins: 10; Number of Rows: 1; Orientation: Vertical; Lead Pitch: 7.62mm
footprint 691243400010
pins: 1, 2, 3, 4, 5, 6, 7, 8, 9, 10

## 691243410003
designator J?  (value not drawn)
WR-TBL Series 2434 Horizontal Entry Modular, THT, pitch 7.62mm, 03p; Manufacturer: Wurth Elektronik; Modularity: No; Rated Current: 10A; Wire Section: 12 to 30 (AWG) 3.31 to 0.0509 (mm^2); Working Voltage: 300V (AC); Manufacturer Part Number: 691243410003; Product Series: WR-TBL; ComponentLink1Description: Website Link; ComponentLink1URL: https://www.we-online.com; ComponentLink2Description: Datasheet Link; ComponentLink2URL: https://www.we-online.com/components/products/datasheet/691243410003; Mount: Through Hole; Operating Temperature Min: -30degC; Operating Temperature Max: 120degC; Packaging: Box; Application: Rising Cage Clamp; Number of Pins: 3; Number of Rows: 1; Orientation: Horizontal; Lead Pitch: 7.62mm
footprint 691243410003
pins: 1, 2, 3

## 691243410004
designator J?  (value not drawn)
WR-TBL Series 2434 Horizontal Entry Modular, THT, pitch 7.62mm, 04p; Manufacturer: Wurth Elektronik; Modularity: No; Rated Current: 10A; Wire Section: 12 to 30 (AWG) 3.31 to 0.0509 (mm^2); Working Voltage: 300V (AC); Manufacturer Part Number: 691243410004; Product Series: WR-TBL; ComponentLink1Description: Website Link; ComponentLink1URL: https://www.we-online.com; ComponentLink2Description: Datasheet Link; ComponentLink2URL: https://www.we-online.com/components/products/datasheet/691243410004; Mount: Through Hole; Operating Temperature Min: -30degC; Operating Temperature Max: 120degC; Packaging: Box; Application: Rising Cage Clamp; Number of Pins: 4; Number of Rows: 1; Orientation: Horizontal; Lead Pitch: 7.62mm
footprint 691243410004
pins: 1, 2, 3, 4

## 691243410005
designator J?  (value not drawn)
WR-TBL Series 2434 Horizontal Entry Modular, THT, pitch 7.62mm, 05p; Manufacturer: Wurth Elektronik; Modularity: No; Rated Current: 10A; Wire Section: 12 to 30 (AWG) 3.31 to 0.0509 (mm^2); Working Voltage: 300V (AC); Manufacturer Part Number: 691243410005; Product Series: WR-TBL; ComponentLink1Description: Website Link; ComponentLink1URL: https://www.we-online.com; ComponentLink2Description: Datasheet Link; ComponentLink2URL: https://www.we-online.com/components/products/datasheet/691243410005; Mount: Through Hole; Operating Temperature Min: -30degC; Operating Temperature Max: 120degC; Packaging: Box; Application: Rising Cage Clamp; Number of Pins: 5; Number of Rows: 1; Orientation: Horizontal; Lead Pitch: 7.62mm
footprint 691243410005
pins: 1, 2, 3, 4, 5

## 691243410006
designator J?  (value not drawn)
WR-TBL Series 2434 Horizontal Entry Modular, THT, pitch 7.62mm, 06p; Manufacturer: Wurth Elektronik; Modularity: No; Rated Current: 10A; Wire Section: 12 to 30 (AWG) 3.31 to 0.0509 (mm^2); Working Voltage: 300V (AC); Manufacturer Part Number: 691243410006; Product Series: WR-TBL; ComponentLink1Description: Website Link; ComponentLink1URL: https://www.we-online.com; ComponentLink2Description: Datasheet Link; ComponentLink2URL: https://www.we-online.com/components/products/datasheet/691243410006; Mount: Through Hole; Operating Temperature Min: -30degC; Operating Temperature Max: 120degC; Packaging: Box; Application: Rising Cage Clamp; Number of Pins: 6; Number of Rows: 1; Orientation: Horizontal; Lead Pitch: 7.62mm
footprint 691243410006
pins: 1, 2, 3, 4, 5, 6

## 691243410007
designator J?  (value not drawn)
WR-TBL Series 2434 Horizontal Entry Modular, THT, pitch 7.62mm, 07p; Manufacturer: Wurth Elektronik; Modularity: No; Rated Current: 10A; Wire Section: 12 to 30 (AWG) 3.31 to 0.0509 (mm^2); Working Voltage: 300V (AC); Manufacturer Part Number: 691243410007; Product Series: WR-TBL; ComponentLink1Description: Website Link; ComponentLink1URL: https://www.we-online.com; ComponentLink2Description: Datasheet Link; ComponentLink2URL: https://www.we-online.com/components/products/datasheet/691243410007; Mount: Through Hole; Operating Temperature Min: -30degC; Operating Temperature Max: 120degC; Packaging: Box; Application: Rising Cage Clamp; Number of Pins: 7; Number of Rows: 1; Orientation: Horizontal; Lead Pitch: 7.62mm
footprint 691243410007
pins: 1, 2, 3, 4, 5, 6, 7

## 691243410008
designator J?  (value not drawn)
WR-TBL Series 2434 Horizontal Entry Modular, THT, pitch 7.62mm, 08p; Manufacturer: Wurth Elektronik; Modularity: No; Rated Current: 10A; Wire Section: 12 to 30 (AWG) 3.31 to 0.0509 (mm^2); Working Voltage: 300V (AC); Manufacturer Part Number: 691243410008; Product Series: WR-TBL; ComponentLink1Description: Website Link; ComponentLink1URL: https://www.we-online.com; ComponentLink2Description: Datasheet Link; ComponentLink2URL: https://www.we-online.com/components/products/datasheet/691243410008; Mount: Through Hole; Operating Temperature Min: -30degC; Operating Temperature Max: 120degC; Packaging: Box; Application: Rising Cage Clamp; Number of Pins: 8; Number of Rows: 1; Orientation: Horizontal; Lead Pitch: 7.62mm
footprint 691243410008
pins: 1, 2, 3, 4, 5, 6, 7, 8

## 691243410009
designator J?  (value not drawn)
WR-TBL Series 2434 Horizontal Entry Modular, THT, pitch 7.62mm, 09p; Manufacturer: Wurth Elektronik; Modularity: No; Rated Current: 10A; Wire Section: 12 to 30 (AWG) 3.31 to 0.0509 (mm^2); Working Voltage: 300V (AC); Manufacturer Part Number: 691243410009; Product Series: WR-TBL; ComponentLink1Description: Website Link; ComponentLink1URL: https://www.we-online.com; ComponentLink2Description: Datasheet Link; ComponentLink2URL: https://www.we-online.com/components/products/datasheet/691243410009; Mount: Through Hole; Operating Temperature Min: -30degC; Operating Temperature Max: 120degC; Packaging: Box; Application: Rising Cage Clamp; Number of Pins: 9; Number of Rows: 1; Orientation: Horizontal; Lead Pitch: 7.62mm
footprint 691243410009
pins: 1, 2, 3, 4, 5, 6, 7, 8, 9

## 691243410010
designator J?  (value not drawn)
WR-TBL Series 2434 Horizontal Entry Modular, THT, pitch 7.62mm, 10p; Manufacturer: Wurth Elektronik; Modularity: No; Rated Current: 10A; Wire Section: 12 to 30 (AWG) 3.31 to 0.0509 (mm^2); Working Voltage: 300V (AC); Manufacturer Part Number: 691243410010; Product Series: WR-TBL; ComponentLink1Description: Website Link; ComponentLink1URL: https://www.we-online.com; ComponentLink2Description: Datasheet Link; ComponentLink2URL: https://www.we-online.com/components/products/datasheet/691243410010; Mount: Through Hole; Operating Temperature Min: -30degC; Operating Temperature Max: 120degC; Packaging: Box; Application: Rising Cage Clamp; Number of Pins: 10; Number of Rows: 1; Orientation: Horizontal; Lead Pitch: 7.62mm
footprint 691243410010
pins: 1, 2, 3, 4, 5, 6, 7, 8, 9, 10

## 691244500004
designator J?  (value not drawn)
WR-TBL Series 2445 Vertical Entry Modular, THT, pitch 5.08mm, 04p; Manufacturer: Wurth Elektronik; Modularity: Yes; Rated Current: 16A; Wire Section: 12 to 30 (AWG) 3.31 to 0.0509 (mm^2); Working Voltage: 300V (AC); Manufacturer Part Number: 691244500004; Product Series: WR-TBL; ComponentLink1Description: Website Link; ComponentLink1URL: https://www.we-online.com; ComponentLink2Description: Datasheet Link; ComponentLink2URL: https://www.we-online.com/components/products/datasheet/691244500004; Mount: Through Hole; Operating Temperature Min: -30degC; Operating Temperature Max: 120degC; Packaging: Box; Application: Rising Cage Clamp; Number of Pins: 4; Number of Rows: 1; Orientation: Vertical; Lead Pitch: 5.08mm
footprint 691244500004
pins: 1, 2, 3, 4

## 691244500005
designator J?  (value not drawn)
WR-TBL Series 2445 Vertical Entry Modular, THT, pitch 5.08mm, 05p; Manufacturer: Wurth Elektronik; Modularity: Yes; Rated Current: 16A; Wire Section: 12 to 30 (AWG) 3.31 to 0.0509 (mm^2); Working Voltage: 300V (AC); Manufacturer Part Number: 691244500005; Product Series: WR-TBL; ComponentLink1Description: Website Link; ComponentLink1URL: https://www.we-online.com; ComponentLink2Description: Datasheet Link; ComponentLink2URL: https://www.we-online.com/components/products/datasheet/691244500005; Mount: Through Hole; Operating Temperature Min: -30degC; Operating Temperature Max: 120degC; Packaging: Box; Application: Rising Cage Clamp; Number of Pins: 5; Number of Rows: 1; Orientation: Vertical; Lead Pitch: 5.08mm
footprint 691244500005
pins: 1, 2, 3, 4, 5

## 691244500006
designator J?  (value not drawn)
WR-TBL Series 2445 Vertical Entry Modular, THT, pitch 5.08mm, 06p; Manufacturer: Wurth Elektronik; Modularity: Yes; Rated Current: 16A; Wire Section: 12 to 30 (AWG) 3.31 to 0.0509 (mm^2); Working Voltage: 300V (AC); Manufacturer Part Number: 691244500006; Product Series: WR-TBL; ComponentLink1Description: Website Link; ComponentLink1URL: https://www.we-online.com; ComponentLink2Description: Datasheet Link; ComponentLink2URL: https://www.we-online.com/components/products/datasheet/691244500006; Mount: Through Hole; Operating Temperature Min: -30degC; Operating Temperature Max: 120degC; Packaging: Box; Application: Rising Cage Clamp; Number of Pins: 6; Number of Rows: 1; Orientation: Vertical; Lead Pitch: 5.08mm
footprint 691244500006
pins: 1, 2, 3, 4, 5, 6

## 691244500007
designator J?  (value not drawn)
WR-TBL Series 2445 Vertical Entry Modular, THT, pitch 5.08mm, 07p; Manufacturer: Wurth Elektronik; Modularity: Yes; Rated Current: 16A; Wire Section: 12 to 30 (AWG) 3.31 to 0.0509 (mm^2); Working Voltage: 300V (AC); Manufacturer Part Number: 691244500007; Product Series: WR-TBL; ComponentLink1Description: Website Link; ComponentLink1URL: https://www.we-online.com; ComponentLink2Description: Datasheet Link; ComponentLink2URL: https://www.we-online.com/components/products/datasheet/691244500007; Mount: Through Hole; Operating Temperature Min: -30degC; Operating Temperature Max: 120degC; Packaging: Box; Application: Rising Cage Clamp; Number of Pins: 7; Number of Rows: 1; Orientation: Vertical; Lead Pitch: 5.08mm
footprint 691244500007
pins: 1, 2, 3, 4, 5, 6, 7

## 691244500008
designator J?  (value not drawn)
WR-TBL Series 2445 Vertical Entry Modular, THT, pitch 5.08mm, 08p; Manufacturer: Wurth Elektronik; Modularity: Yes; Rated Current: 16A; Wire Section: 12 to 30 (AWG) 3.31 to 0.0509 (mm^2); Working Voltage: 300V (AC); Manufacturer Part Number: 691244500008; Product Series: WR-TBL; ComponentLink1Description: Website Link; ComponentLink1URL: https://www.we-online.com; ComponentLink2Description: Datasheet Link; ComponentLink2URL: https://www.we-online.com/components/products/datasheet/691244500008; Mount: Through Hole; Operating Temperature Min: -30degC; Operating Temperature Max: 120degC; Packaging: Box; Application: Rising Cage Clamp; Number of Pins: 8; Number of Rows: 1; Orientation: Vertical; Lead Pitch: 5.08mm
footprint 691244500008
pins: 1, 2, 3, 4, 5, 6, 7, 8

## 691244500009
designator J?  (value not drawn)
WR-TBL Series 2445 Vertical Entry Modular, THT, pitch 5.08mm, 09p; Manufacturer: Wurth Elektronik; Modularity: Yes; Rated Current: 16A; Wire Section: 12 to 30 (AWG) 3.31 to 0.0509 (mm^2); Working Voltage: 300V (AC); Manufacturer Part Number: 691244500009; Product Series: WR-TBL; ComponentLink1Description: Website Link; ComponentLink1URL: https://www.we-online.com; ComponentLink2Description: Datasheet Link; ComponentLink2URL: https://www.we-online.com/components/products/datasheet/691244500009; Mount: Through Hole; Operating Temperature Min: -30degC; Operating Temperature Max: 120degC; Packaging: Box; Application: Rising Cage Clamp; Number of Pins: 9; Number of Rows: 1; Orientation: Vertical; Lead Pitch: 5.08mm
footprint 691244500009
pins: 1, 2, 3, 4, 5, 6, 7, 8, 9